# Altium footprint library Passive.PcbLib: 235 footprints (part 12 of 15)
Each footprint in its own frame and in the unit in brackets; x right, y up, seen from the top. Pads: shape width x height; smd on the part's side, far side on the other; paste and mask are expansions set on the pad; w line width, h text height; cw(c..) or ccw(c..) is an arc to the next point about the centre after c.
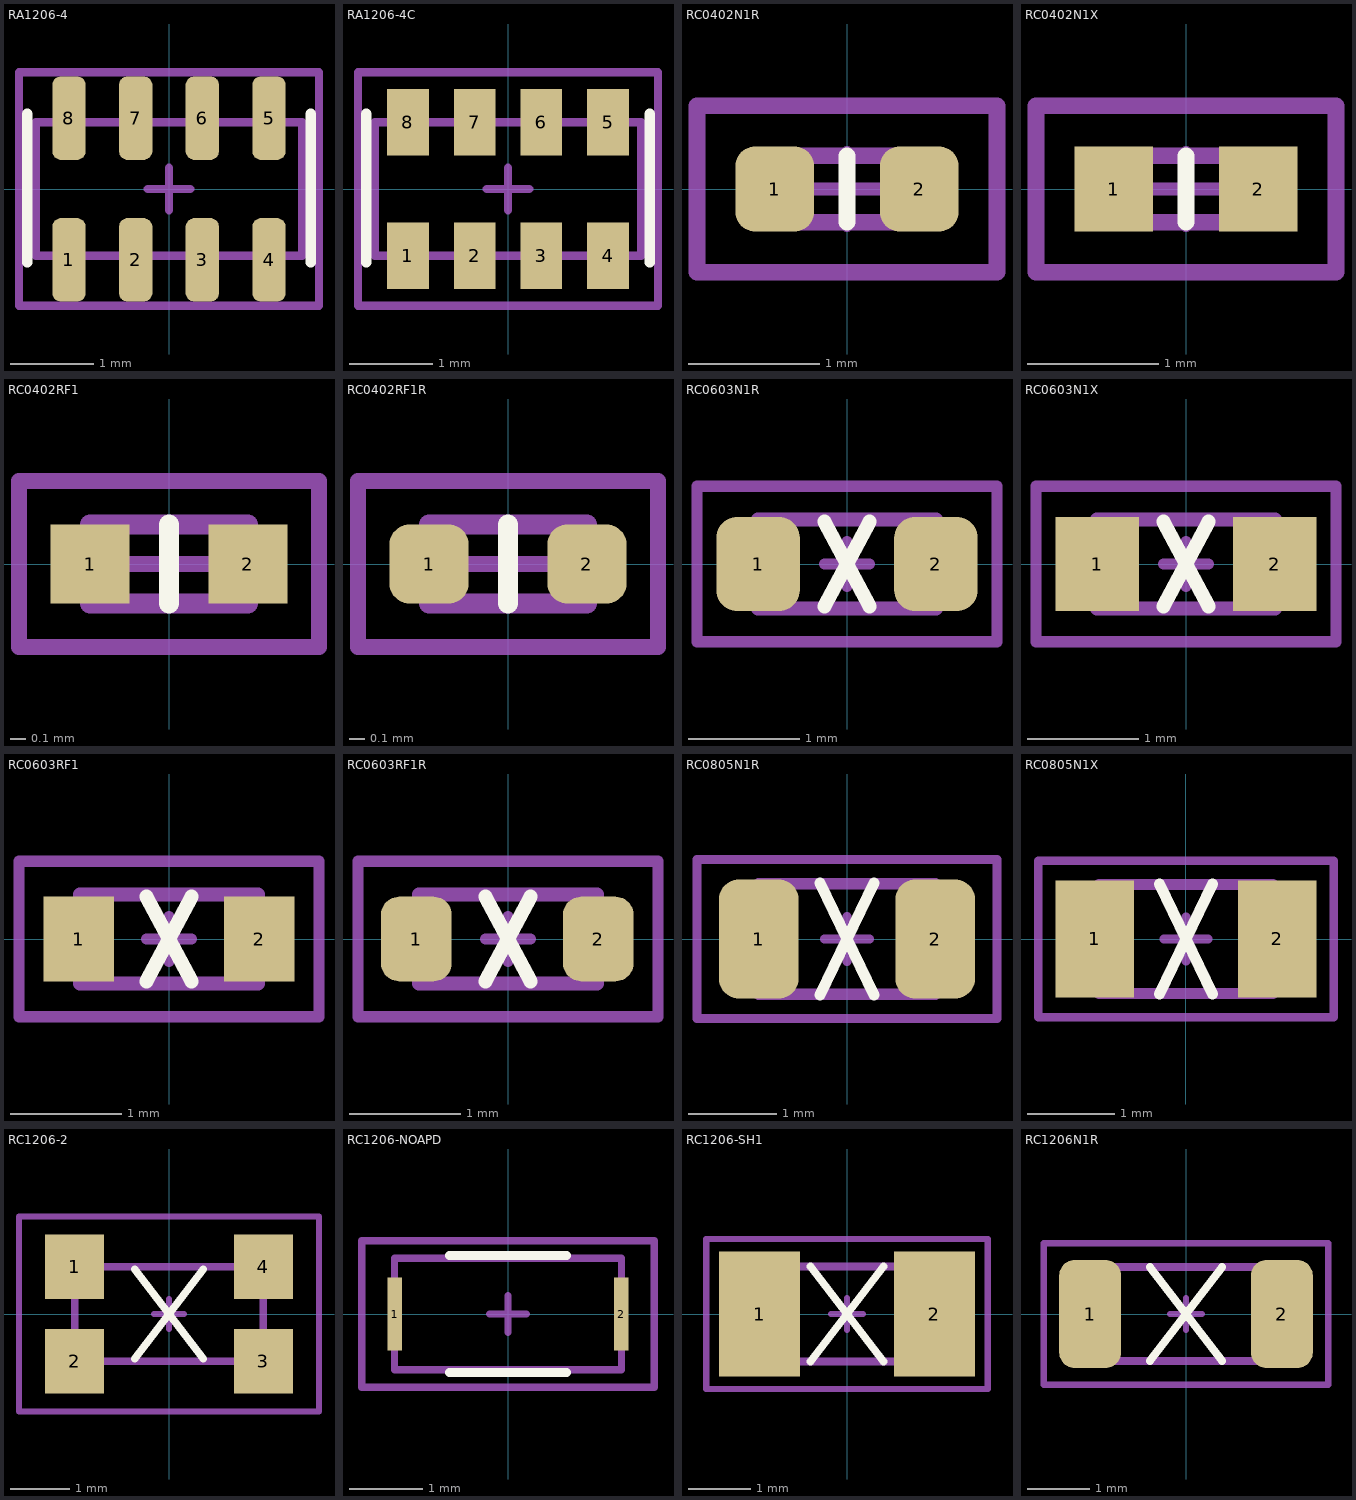
[diagram p11: the footprints below, top view; thin cyan lines are the x and y axes]

## RA1206-4 [mm] "CRA06P Resistor array 4x Single R; 1206 8 pin R0.8mm"
height 0.5
pads (8):
  rrect50% 0.4x1 smd: 1(-1.2,-0.85) 2(-0.4,-0.85) 3(0.4,-0.85) 4(1.2,-0.85) 5(1.2,0.85) 6(0.4,0.85) 7(-0.4,0.85) 8(-1.2,0.85)
Top Overlay:
  lines w0.127: -1.7,-0.878 -1.7,0.9 ; 1.7,-0.878 1.7,0.9
Mechanical 13:
  lines w0.1: -1.6,-0.8 -1.6,0.8 1.6,0.8 1.6,-0.8 -1.6,-0.8
Mechanical 15:
  lines w0.1: -0.254,0 0.254,0 ; 0,-0.254 0,0.254
  lines w0.102: -1.8,-1.4 -1.8,1.4 1.8,1.4 1.8,-1.4 -1.8,-1.4
3D body: height 0.55, standoff 0.5, extent -1.6,-0.5 1.6,0.5
3D body: height 0.5, standoff 0, extent -1.4,0.6 -1,0.8
3D body: height 0.5, standoff 0, extent -0.6,0.6 -0.2,0.8
3D body: height 0.5, standoff 0, extent 0.2,0.6 0.6,0.8
3D body: height 0.5, standoff 0, extent 1,0.6 1.4,0.8
3D body: height 0.5, standoff 0, extent 1,-0.8 1.4,-0.6
3D body: height 0.5, standoff 0, extent 0.2,-0.8 0.6,-0.6
3D body: height 0.5, standoff 0, extent -0.6,-0.8 -0.2,-0.6
3D body: height 0.5, standoff 0, extent -1.4,-0.8 -1,-0.6
3D body: height 0.5, standoff 0, extent -1.6,-0.6 1.6,0.6

## RA1206-4C [mm] "TC164 Resistor array 4x Single R; 1206 8 pin R0.8mm"
height 0.5
pads (8):
  rect 0.5x0.8 smd mask+0.051: 1(-1.2,-0.8) 2(-0.4,-0.8) 3(0.4,-0.8) 4(1.2,-0.8) 5(1.2,0.8) 6(0.4,0.8) 7(-0.4,0.8) 8(-1.2,0.8)
Top Overlay:
  lines w0.127: -1.7,-0.878 -1.7,0.9 ; 1.7,-0.878 1.7,0.9
Mechanical 13:
  lines w0.1: -1.6,-0.8 -1.375,-0.8 cw(c-1.2,-0.8) -1.025,-0.8 -0.575,-0.8 cw(c-0.4,-0.8) -0.225,-0.8 0.225,-0.8 cw(c0.4,-0.8) 0.575,-0.8 1.025,-0.8 cw(c1.2,-0.8) 1.375,-0.8 1.6,-0.8 1.6,0.8 1.375,0.8 cw(c1.2,0.8) 1.025,0.8 0.575,0.8 cw(c0.4,0.8) 0.225,0.8 -0.225,0.8 cw(c-0.4,0.8) -0.575,0.8 -1.025,0.8 cw(c-1.2,0.8) -1.375,0.8 -1.6,0.8 -1.6,-0.8
Mechanical 15:
  lines w0.1: -0.254,0 0.254,0 ; 0,-0.254 0,0.254
  lines w0.102: -1.8,-1.4 -1.8,1.4 1.8,1.4 1.8,-1.4 -1.8,-1.4
3D body: height 0.55, standoff 0, extent -1.5,-0.8 -0.9,-0.5
3D body: height 0.55, standoff 0, extent -0.7,-0.8 -0.1,-0.5
3D body: height 0.55, standoff 0, extent 0.1,-0.8 0.7,-0.5
3D body: height 0.55, standoff 0, extent 0.9,-0.8 1.5,-0.5
3D body: height 0.55, standoff 0, extent 0.9,0.5 1.5,0.8
3D body: height 0.55, standoff 0, extent 0.1,0.5 0.7,0.8
3D body: height 0.55, standoff 0, extent -0.7,0.5 -0.1,0.8
3D body: height 0.55, standoff 0, extent -1.5,0.5 -0.9,0.8
3D body: height 0.55, standoff 0, extent -1.6,-0.8 1.6,0.8
3D body: height 0.6, standoff 0.55, extent -1.6,-0.5 1.6,0.5

## RC0402N1R [mm] "Chip capacitor 0402 ROUNDED PAD"
height 0.5
pads (2):
  rrect50% 0.6x0.65 smd: 1(-0.55,0) 2(0.55,0)
Top Overlay:
  lines w0.127: 0,-0.254 0,0.254
Mechanical 13:
  lines w0.127: -0.508,-0.254 -0.508,0.254 0.508,0.254 0.508,-0.254 -0.508,-0.254
Mechanical 15:
  lines w0.102: -0.3,0 0.3,0 ; 0,-0.275 0,0.275
  lines w0.127: -1.143,-0.635 1.143,-0.635 1.143,0.635 -1.143,0.635 -1.143,-0.635
3D body: height 0.35, standoff 0, extent -0.508,-0.254 0.508,0.254
3D body: height 0.36, standoff 0.35, extent -0.35,-0.254 0.35,0.254

## RC0402N1X [mm] "Chip capacitor 0402"
height 0.5
pads (2):
  rect 0.6x0.65 smd: 1(-0.55,0) 2(0.55,0)
Top Overlay:
  lines w0.127: 0,-0.254 0,0.254
Mechanical 13:
  lines w0.127: -0.508,-0.254 0.508,-0.254 0.508,0.254 -0.508,0.254 -0.508,-0.254
Mechanical 15:
  lines w0.102: -0.3,0 0.3,0 ; 0,-0.275 0,0.275
  lines w0.127: -1.143,-0.635 -1.143,0.635 1.143,0.635 1.143,-0.635 -1.143,-0.635
3D body: height 0.36, standoff 0.35, extent -0.35,-0.254 0.35,0.254
3D body: height 0.35, standoff 0, extent -0.508,-0.254 0.508,0.254

## RC0402RF1 [mil] "Chip resistor 0402 RF pad"
height 15.75
pads (2):
  rect 20x20 smd: 1(-20,0) 2(20,0)
Top Overlay:
  lines w5: 0,-10 0,10
Mechanical 13:
  lines w5: -20,-10 20,-10 20,10 -20,10 -20,-10
Mechanical 15:
  lines w3.94: -9.84,0 9.84,0 ; 0,-9.84 0,9.84
  lines w4: -38,-21 -38,21 38,21 38,-21 -38,-21
3D body: height 13.78, standoff 0, extent -20,-10 20,10
3D body: height 13.98, standoff 13.78, extent -13.78,-10 13.78,10

## RC0402RF1R [mil] "Chip resistor 0402 RF round pad"
height 15.75
pads (2):
  rrect50% 20x20 smd: 1(-20,0) 2(20,0)
Top Overlay:
  lines w5: 0,-10 0,10
Mechanical 13:
  lines w5: -20,-10 20,-10 20,10 -20,10 -20,-10
Mechanical 15:
  lines w3.94: -9.84,0 9.84,0 ; 0,-9.84 0,9.84
  lines w4: -38,-21 -38,21 38,21 38,-21 -38,-21
3D body: height 13.78, standoff 0, extent -20,-10 20,10
3D body: height 13.98, standoff 13.78, extent -13.78,-10 13.78,10

## RC0603N1R [mm] "Chip resistor 0603 ROUNDED PAD"
height 0.45
pads (2):
  rrect50% 0.75x0.85 smd: 1(-0.8,0) 2(0.8,0)
Top Overlay:
  lines w0.127: -0.203,-0.381 0.203,0.381 ; -0.203,0.381 0.203,-0.381
Mechanical 13:
  lines w0.127: -0.8,-0.4 0.8,-0.4 0.8,0.4 -0.8,0.4 -0.8,-0.4
Mechanical 15:
  lines w0.1: -0.2,0 0.2,0 ; 0,-0.2 0,0.2 ; -1.35,-0.7 1.35,-0.7 1.35,0.7 -1.35,0.7 -1.35,-0.7
3D body: height 0.46, standoff 0.45, extent -0.6,-0.4 0.6,0.4
3D body: height 0.45, standoff 0, extent -0.8,-0.4 0.8,0.4

## RC0603N1X [mm] "Chip resistor 0603"
height 0.45
pads (2):
  rect 0.75x0.85 smd: 1(-0.8,0) 2(0.8,0)
Top Overlay:
  lines w0.127: -0.203,-0.381 0.203,0.381 ; -0.203,0.381 0.203,-0.381
Mechanical 13:
  lines w0.127: -0.8,-0.4 -0.8,0.4 0.8,0.4 0.8,-0.4 -0.8,-0.4
Mechanical 15:
  lines w0.1: -0.2,0 0.2,0 ; 0,-0.2 0,0.2 ; -1.35,-0.7 -1.35,0.7 1.35,0.7 1.35,-0.7 -1.35,-0.7
3D body: height 0.45, standoff 0, extent -0.8,-0.4 0.8,0.4
3D body: height 0.46, standoff 0.45, extent -0.6,-0.4 0.6,0.4

## RC0603RF1 [mil] "Chip resistor 0603 RF pad"
height 17.72
pads (2):
  rect 25x30 smd: 1(-32,0) 2(32,0)
Top Overlay:
  lines w5: -8,-15 8,15 ; -8,15 8,-15
Mechanical 13:
  lines w5: -31.5,-15.75 -31.5,15.75 31.5,15.75 31.5,-15.75 -31.5,-15.75
Mechanical 15:
  lines w3.94: -7.87,0 7.87,0 ; 0,-7.87 0,7.87 ; -53.15,-27.56 -53.15,27.56 53.15,27.56 53.15,-27.56 -53.15,-27.56
3D body: height 17.72, standoff 0, extent -31.5,-15.75 31.5,15.75
3D body: height 17.91, standoff 17.72, extent -23.62,-15.75 23.62,15.75

## RC0603RF1R [mil] "Chip resistor 0603 RF pad ROUNDED PAD"
height 17.72
pads (2):
  rrect50% 25x30 smd: 1(-32.48,0) 2(32,0)
Top Overlay:
  lines w5: -8,-15 8,15 ; -8,15 8,-15
Mechanical 13:
  lines w5: -31.5,-15.75 -31.5,15.75 31.5,15.75 31.5,-15.75 -31.5,-15.75
Mechanical 15:
  lines w3.94: -7.87,0 7.87,0 ; 0,-7.87 0,7.87 ; -53.15,-27.56 -53.15,27.56 53.15,27.56 53.15,-27.56 -53.15,-27.56
3D body: height 17.72, standoff 0, extent -31.5,-15.75 31.5,15.75
3D body: height 17.91, standoff 17.72, extent -23.62,-15.75 23.62,15.75

## RC0805N1R [mm] "Chip resistor 0805 ROUNDED PAD"
height 0.5
pads (2):
  rrect50% 0.9x1.35 smd: 1(-1,0) 2(1,0)
Top Overlay:
  lines w0.127: -0.305,-0.635 0.305,0.635 ; -0.305,0.635 0.305,-0.635
Mechanical 13:
  lines w0.127: -1,-0.625 -1,0.625 1,0.625 1,-0.625 -1,-0.625
Mechanical 15:
  lines w0.1: -0.254,0 0.254,0 ; 0,-0.254 0,0.254 ; -1.7,-0.9 -1.7,0.9 1.7,0.9 1.7,-0.9 -1.7,-0.9
3D body: height 0.5, standoff 0, extent -1.016,-0.625 1.016,0.625
3D body: height 0.51, standoff 0.5, extent -0.6,-0.625 0.6,0.625

## RC0805N1X [mm] "Chip resistor 0805"
height 0.5
pads (2):
  rect 0.9x1.35 smd: 1(-1.05,0) 2(1.05,0)
Top Overlay:
  lines w0.127: -0.305,-0.635 0.305,0.635 ; -0.305,0.635 0.305,-0.635
Mechanical 13:
  lines w0.127: -1,-0.625 -1,0.625 1,0.625 1,-0.625 -1,-0.625
Mechanical 15:
  lines w0.1: -0.254,0 0.254,0 ; 0,-0.254 0,0.254 ; -1.7,-0.9 -1.7,0.9 1.7,0.9 1.7,-0.9 -1.7,-0.9
3D body: height 0.5, standoff 0, extent -1.016,-0.625 1.016,0.625
3D body: height 0.51, standoff 0.5, extent -0.6,-0.625 0.6,0.625

## RC1206-2 [mm] "Chip resistor 1206"
height 0.55
pads (4):
  rect 1x1.1 smd: 1(-1.6,0.8) 2(-1.6,-0.8) 3(1.6,-0.8) 4(1.6,0.8)
Top Overlay:
  lines w0.127: -0.584,-0.762 0.584,0.762 ; -0.584,0.762 0.584,-0.762
Mechanical 13:
  lines w0.127: -1.6,-0.8 -1.6,0.8 1.6,0.8 1.6,-0.8 -1.6,-0.8
Mechanical 15:
  lines w0.1: -0.254,0 0.254,0 ; 0,-0.254 0,0.254 ; -2.54,-1.651 -2.54,1.651 2.54,1.651 2.54,-1.651 -2.54,-1.651
3D body: height 0.55, standoff 0, extent -1.6,-0.8 1.6,0.8
3D body: height 0.56, standoff 0.55, extent -1,-0.8 1,0.8

## RC1206-NOAPD [mm] "Chip resistor 1206"
height 0.55
pads (2):
  rect 0.2x1 smd paste-5 mask-5: 1(-1.55,0) 2(1.55,0)
Top Overlay:
  lines w0.127: -0.8,-0.8 0.8,-0.8 ; -0.8,0.8 0.8,0.8
Mechanical 13:
  lines w0.1: -1.55,-0.762 -1.55,0.762 1.55,0.762 1.55,-0.762 -1.55,-0.762
Mechanical 15:
  lines w0.1: -0.254,0 0.254,0 ; 0,-0.254 0,0.254 ; -2,-1 -2,1 2,1 2,-1 -2,-1
3D body: height 0.55, standoff 0, extent -1.55,-0.762 1.55,0.762
3D body: height 0.56, standoff 0.55, extent -1,-0.762 1,0.762

## RC1206-SH1 [mm] "Chip resistor Shunt 1206"
height 0.55
pads (2):
  rect 1.3x2 smd: 1(-1.4,0) 2(1.4,0)
Top Overlay:
  lines w0.127: -0.584,-0.762 0.584,0.762 ; -0.584,0.762 0.584,-0.762
Mechanical 13:
  lines w0.127: -1.524,-0.762 -1.524,0.762 1.524,0.762 1.524,-0.762 -1.524,-0.762
Mechanical 15:
  lines w0.1: -0.254,0 0.254,0 ; 0,-0.254 0,0.254 ; -2.25,-1.2 -2.25,1.2 2.25,1.2 2.25,-1.2 -2.25,-1.2
3D body: height 0.5, standoff 0.15, extent -1.524,-0.762 1.524,0.762
3D body: height 0.15, standoff 0, extent 0.85,-0.762 1.524,0.762
3D body: height 0.15, standoff 0, extent -1.524,-0.762 -0.85,0.762

## RC1206N1R [mm] "Chip resistor 1206 ROUNDED PAD"
height 0.55
pads (2):
  rrect50% 1x1.75 smd: 1(-1.55,0) 2(1.55,0)
Top Overlay:
  lines w0.127: -0.584,-0.762 0.584,0.762 ; -0.584,0.762 0.584,-0.762
Mechanical 13:
  lines w0.127: -1.55,-0.762 -1.55,0.762 1.55,0.762 1.55,-0.762 -1.55,-0.762
Mechanical 15:
  lines w0.1: -0.254,0 0.254,0 ; 0,-0.254 0,0.254 ; -2.3,-1.143 -2.3,1.143 2.3,1.143 2.3,-1.143 -2.3,-1.143
3D body: height 0.55, standoff 0, extent -1.55,-0.762 1.55,0.762
3D body: height 0.56, standoff 0.55, extent -1,-0.762 1,0.762